# Altium schematic symbol library RCWE251233L0FNEA.SchLib: 1 symbol
Pins are listed as number, name and electrical type; pins without a type are passive.

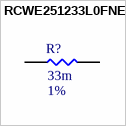
[diagram p0: symbol RCWE251233L0FNEA]

## RCWE251233L0FNEA
designator R?  Resistance: 33m  Tolerance: 1%  (hidden comment: RCWE251233L0FNEA)
Current Sense Resistors - SMD 2watts .033ohms 1% 200ppm; MFR: Vishay / Dale; Power Rating: 2W; PN: RCWE251233L0FNEA; Footprint: RES2512; Package: 2512; ComponentLink1Description: Datasheet; ComponentLink1URL: https://www.mouser.ca/datasheet/2/427/rcwe-1761813.pdf; Supplier 1: Mouser; Supplier Part Number 1: 71-RCWE251233L0FNEA
footprint RES_2512
pins: 1, 2